# Altium integrated library Discret.IntLib: 10 symbols
Pins are listed as number, name and electrical type; pins without a type are passive.

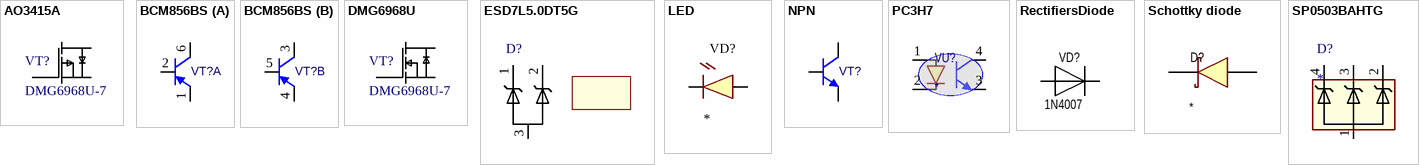
[diagram p0: symbols AO3415A to SP0503BAHTG]

## AO3415A
designator VT?, comment DMG6968U-7
P-channel MOSFET; Model: DMG6968U-7; Manufacturer: *; HelpURL: *; Package: *; Value: *
footprint SOT23-3N (SOT23, 3-Leads, Body 2,90x2,40mm, Pitch 0,90mm, IPC Medium Density)
pins: 1 G, 2 S, 3 D

## BCM856BS
designator VT?
NPN Bipolar Transistor; Model: *; Manufacturer: *; HelpURL: *; Package: *; Value: *
footprint SOT363 (SOT363, 6-Leads, Body 2,00x2,10mm, Pitch 0,65mm, IPC Medium Density)
part A pins: 1 E, 2 B, 6 C
part B pins: 3 C, 4 E, 5 B

## DMG6968U
designator VT?, comment DMG6968U-7
N-channel MOSFET; Model: DMG6968U-7; Manufacturer: *; HelpURL: *; Package: *; Value: *
footprint SOT23-3N (SOT23, 3-Leads, Body 2,90x2,40mm, Pitch 0,90mm, IPC Medium Density)
pins: 1 G, 2 S, 3 D

## ESD7L5.0DT5G
designator D?  (value not drawn)
footprint SOT-723 (SOT23, 3-Leads, Body 1,20x1,20mm, Pitch 0,40mm, IPC Medium Density)
pins: 1 C1, 2 C2, 3 Anode

## LED
designator VD?
Model: *; Manufacturer: *; HelpURL: *; Package: *; Value: *
footprint WP934EW/YD (Kingbright)
footprint LED0402 (1mm 0,5mm)
footprint LED0603 (1.6mm 0.8mm)
footprint LED0805 (2.0mm 1.25mm)
pins: A, C

## NPN
designator VT?
NPN Bipolar Transistor; Model: *; Manufacturer: *; HelpURL: *; Package: *; Value: *
footprint SOT23-3N (SOT23, 3-Leads, Body 2,90x2,40mm, Pitch 0,90mm, IPC Medium Density)
pins: 1 B, 2 E, 3 C

## PC3H7
designator VU?
Mini-falt Package, General  Purpose Half Pitch Photocoupler
footprint PC3h7 (SOIC, 4-Leads, Body 2,60x4,40mm, Pitch 1,27mm, Thermal Pad 3,10x2,40mm, IPC Medium Density)
pins: 1 Anode, 2 Catode, 3 E, 4 C

## RectifiersDiode
designator VD?, comment 1N4007
Rectifiers diode; Model: 1N4007
footprint DO-40 (vertical)
footprint SOD323
footprint SOD-123F
footprint DO-15-V (vertical)
pins: 1 C, 2 A

## Schottky diode
designator D?
Schottky diode; Model: *; Manufacturer: *; HelpURL: *; Package: *; Value: *
footprint ST_SMA
footprint DO-41-V (vertical)
footprint SMB (1SMB59xxBT3G Series, SZ1SMB59xxT3G Series, SMB  CASE 403A?03  ISSUE J)
pins: 1, 2

## SP0503BAHTG
designator D?
TVS Diode (Uni-directional); Manufacturer_Name: LITTELFUSE; Manufacturer_Part_Number: SP0503BAHTG; Datasheet Link: https://nl.mouser.com/datasheet/2/240/Littelfuse_TVS_Diode_Array_SP05_Datasheet.pdf-777043.pdf; Height: 1.22mm; Mouser Part Number: 576-SP0503BAHTG; Mouser Price/Stock: https://www.mouser.co.uk/ProductDetail/Littelfuse/SP0503BAHTG?qs=uD%2FdkN7XIa0NTYXwHdELYA%3D%3D; Arrow Part Number: SP0503BAHTG; Arrow Price/Stock: https://www.arrow.com/en/products/sp0503bahtg/littelfuse?region=nac
footprint SP0503BAHTG
pins: 1 COMMON_A, 2 K_1, 3 K_2, 4 K_3